# Altium schematic symbol library DC-DC Converters.SchLib: 69 symbols
Pins are listed as number, name and electrical type; pins without a type are passive.

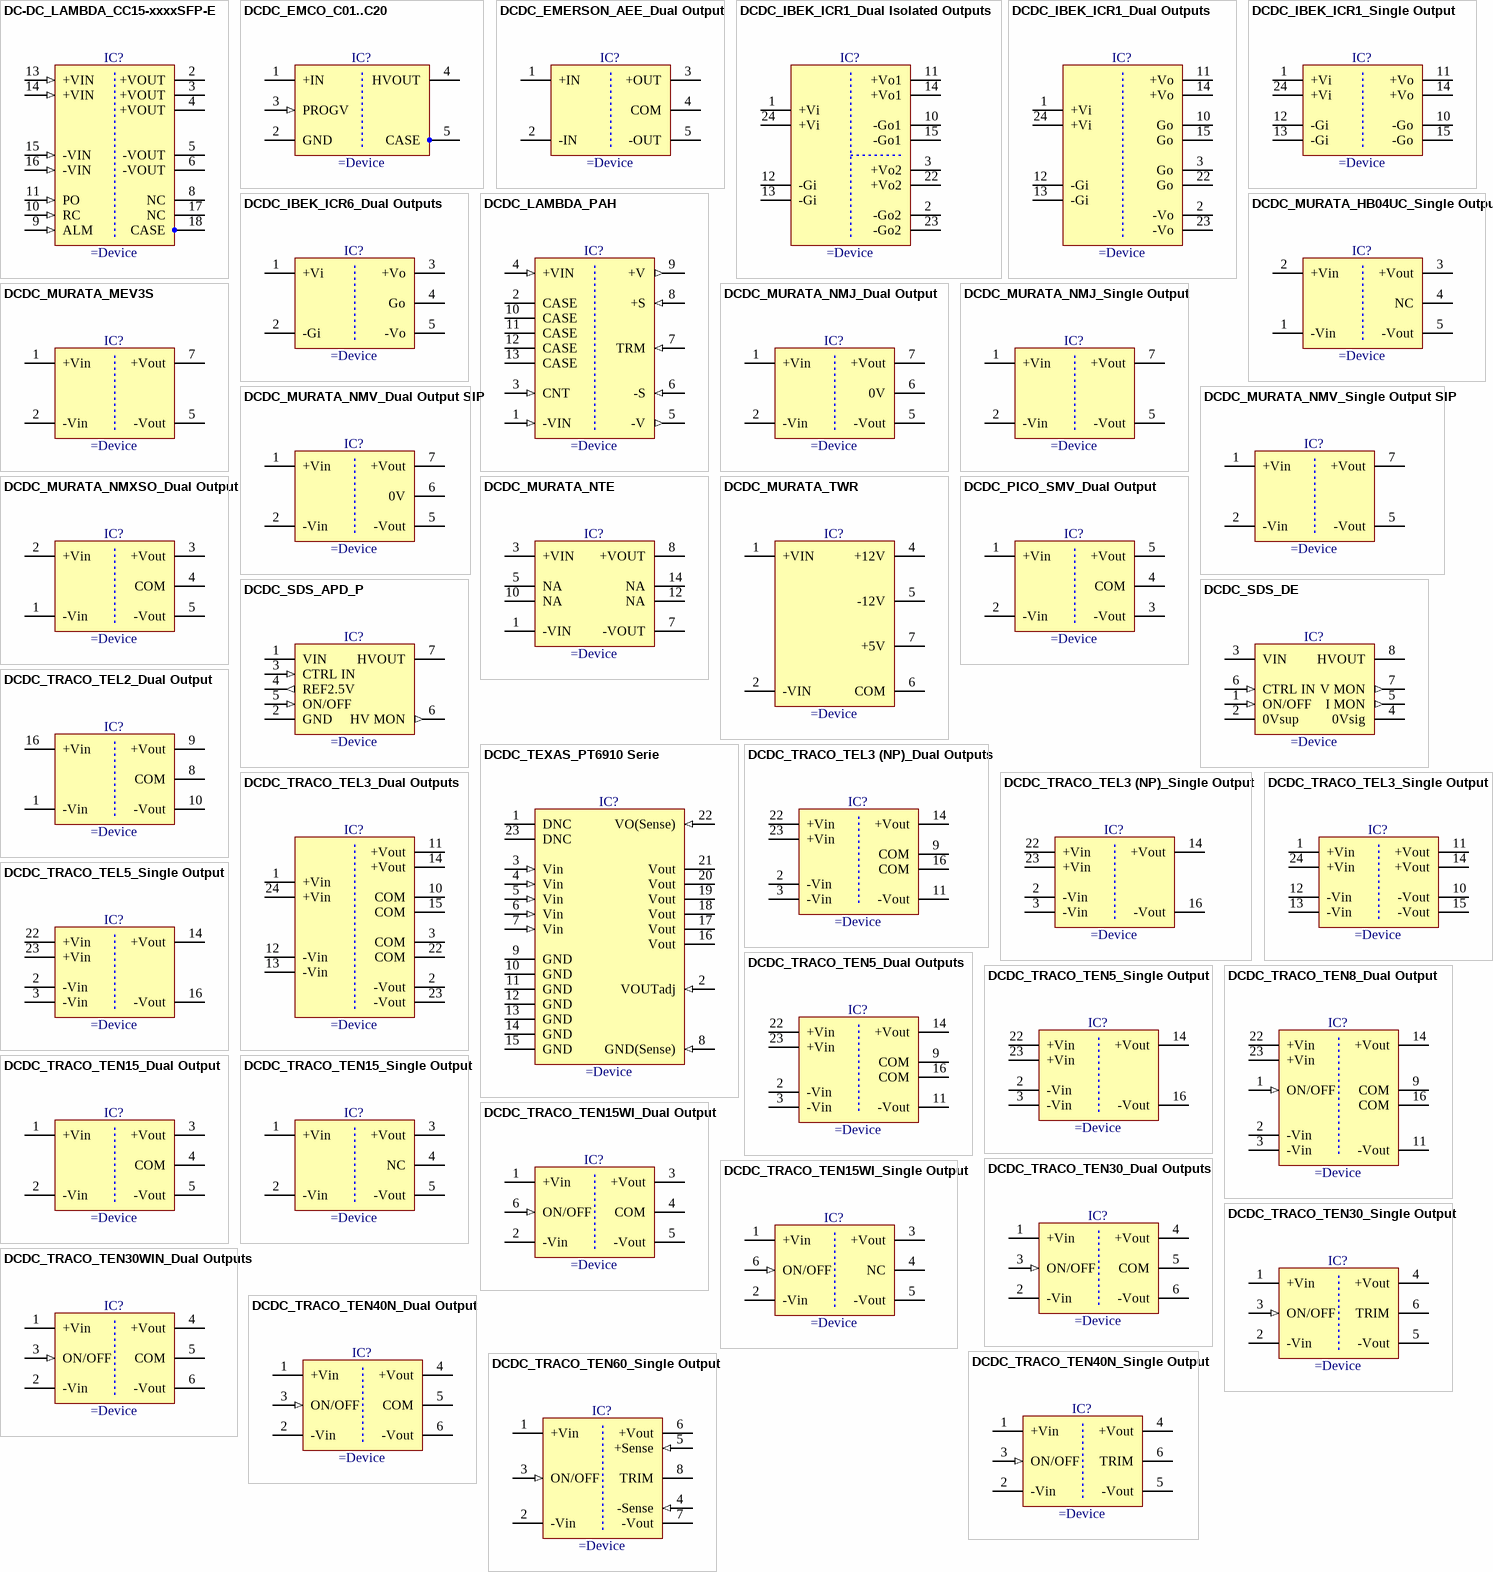
[diagram p0: symbols DC-DC_LAMBDA_CC15-xxxxSFP-E to DCDC_TRACO_TEN60_Single Output]

## DC-DC_LAMBDA_CC15-xxxxSFP-E
designator IC?
LAMBDA , CCP-E Series, 24V Input, 15W DCDC Converter
pins: 2 +VOUT (power) "Baseplate Terminal", 3 +VOUT (power) "On / Off Control terminal", 4 +VOUT (power) "Positive Input Terminal", 5 -VOUT (power) "Negative Output Terminal", 6 -VOUT (power) "Negative Remote sense", 8 NC "Positive Remote sense", 9 ALM (in) "Positive Output Terminal", 10 RC (in) "Baseplate Terminal", 11 PO (in) "Baseplate Terminal", 13 +VIN (in) "Baseplate Terminal", 14 +VIN (in) "Positive Output Terminal", 15 -VIN (in) "Positive Output Terminal", 16 -VIN (in) "Positive Output Terminal", 17 NC "Positive Output Terminal", 18 CASE (power) "Positive Output Terminal"

## DCDC_EMCO_C01..C20
designator IC?
TRACO, THN15 Series, Single Outputs DCDC Converter
pins: 1 +IN (power), 2 GND (power), 3 PROGV (in), 4 HVOUT (power), 5 CASE (power)

## DCDC_EMERSON_AEE_Dual Output
designator IC?
EMERSON AEE 15W Serie, Dual Output DCDC Converter
pins: 1 +IN (power), 2 -IN (power), 3 +OUT (power), 4 COM (power), 5 -OUT (power)

## DCDC_IBEK_ICR1_Dual Isolated Outputs
designator IC?
IBEK, ICR1 Serie, Dual Isolated Outputs DCDC Converter
pins: 1 +Vi (power), 2 -Go2 (power), 3 +Vo2 (power), 10 -Go1 (power), 11 +Vo1 (power), 12 -Gi (power), 13 -Gi (power), 14 +Vo1 (power), 15 -Go1 (power), 22 +Vo2 (power), 23 -Go2 (power), 24 +Vi (power)

## DCDC_IBEK_ICR1_Dual Outputs
designator IC?
IBEK, ICR1 Serie, Dual Outputs DCDC Converter
pins: 1 +Vi (power), 2 -Vo (power), 3 Go (power), 10 Go (power), 11 +Vo (power), 12 -Gi (power), 13 -Gi (power), 14 +Vo (power), 15 Go (power), 22 Go (power), 23 -Vo (power), 24 +Vi (power)

## DCDC_IBEK_ICR1_Single Output
designator IC?
IBEK, ICR1 Serie, Single Output DCDC Converter
pins: 1 +Vi (power), 10 -Go (power), 11 +Vo (power), 12 -Gi (power), 13 -Gi (power), 14 +Vo (power), 15 -Go (power), 24 +Vi (power)

## DCDC_IBEK_ICR6_Dual Outputs
designator IC?
IBEK, ICR6 Serie, Dual Outputs DCDC Converter
pins: 1 +Vi (power), 2 -Gi (power), 3 +Vo (power), 4 Go (power), 5 -Vo (power)

## DCDC_LAMBDA_PAH
designator IC?
LAMBDA , PAH Serie, 50W To 200W, 48V Input Half Brick DCDC Converter
pins: 1 -VIN (in) "Negative Input Terminal", 2 CASE "Baseplate Terminal", 3 CNT (in) "On / Off Control terminal", 4 +VIN (in) "Positive Input Terminal", 5 -V (out) "Negative Output Terminal", 6 -S (in) "Negative Remote sense", 7 TRM (in) "Output adjustment Trim pin", 8 +S (in) "Positive Remote sense", 9 +V (out) "Positive Output Terminal", 10 CASE "Baseplate Terminal", 11 CASE "Baseplate Terminal", 12 CASE "Baseplate Terminal", 13 CASE "Baseplate Terminal"

## DCDC_MURATA_HB04UC_Single Output
designator IC?
4W Unregulated High Isolation DC-DC Converter
pins: 1 -Vin (power), 2 +Vin (power), 3 +Vout (power), 4 NC (power), 5 -Vout (power)

## DCDC_MURATA_MEV3S
designator IC?
MURATA, MEV3S Serie DCDC Converter
pins: 1 +Vin (power), 2 -Vin (power), 5 -Vout (power), 7 +Vout (power)

## DCDC_MURATA_NMJ_Dual Output
designator IC?
MURATA, NMJ Serie, Dual Output DCDC Converter
pins: 1 +Vin (power), 2 -Vin (power), 5 -Vout (power), 6 0V (power), 7 +Vout (power)

## DCDC_MURATA_NMJ_Single Output
designator IC?
MURATA, NMJ Serie, Single Output DCDC Converter
pins: 1 +Vin (power), 2 -Vin (power), 5 -Vout (power), 7 +Vout (power)

## DCDC_MURATA_NMV_Dual Output SIP
designator IC?
MURATA, NMV Serie, Dual Output DCDC Converter
pins: 1 +Vin (power), 2 -Vin (power), 5 -Vout (power), 6 0V (power), 7 +Vout (power)

## DCDC_MURATA_NMV_Single Output SIP
designator IC?
MURATA, NMV Serie, Single Output DCDC Converter
pins: 1 +Vin (power), 2 -Vin (power), 5 -Vout (power), 7 +Vout (power)

## DCDC_MURATA_NMXSO_Dual Output
designator IC?
Isolated 5W Regulated Single & Dual Output DC-DC Converter
pins: 1 -Vin (power), 2 +Vin (power), 3 +Vout (power), 4 COM (power), 5 -Vout (power)

## DCDC_MURATA_NTE
designator IC?
NTE Series, DC-DC Converter
pins: 1 -VIN (power), 3 +VIN (power), 5 NA, 7 -VOUT (power), 8 +VOUT (power), 10 NA, 12 NA, 14 NA

## DCDC_MURATA_TWR
designator IC?
High-Reliability, 2" x 1", 8-11 W, Triple Output DC/DC Converters
pins: 1 +VIN (power), 2 -VIN (power), 4 +12V (power), 5 -12V (power), 6 COM (power), 7 +5V (power)

## DCDC_PICO_SMV_Dual Output
designator IC?
PICO, SMV Serie, Dual Output DCDC Converter
pins: 1 +Vin (power), 2 -Vin (power), 3 -Vout (power), 4 COM (power), 5 +Vout (power)

## DCDC_SDS_APD_P
designator IC?
SDS, APD Serie, High Voltage DC-DC Converter
pins: 1 VIN (power), 2 GND (power), 3 CTRL IN (in), 4 REF2.5V (out), 5 ON/OFF (in), 6 HV MON (out), 7 HVOUT (power)

## DCDC_SDS_DE
designator IC?
SDS, DE Serie, High Voltage DC-DC Converter
pins: 1 ON/OFF (in), 2 0Vsup (power), 3 VIN (power), 4 0Vsig (power), 5 I MON (out), 6 CTRL IN (in), 7 V MON (out), 8 HVOUT (power)

## DCDC_TEXAS_PT6910 Serie
designator IC?
12 Watt 5V/3.3V Input Plus to Minus Voltage Converter
pins: 1 DNC, 2 VOUTadj (in), 3 Vin (in), 4 Vin (in), 5 Vin (in), 6 Vin (in), 7 Vin (in), 8 GND(Sense) (in), 9 GND (power), 10 GND (power), 11 GND (power), 12 GND (power), 13 GND (power), 14 GND (power), 15 GND (power), 16 Vout (power), 17 Vout (power), 18 Vout (power), 19 Vout (power), 20 Vout (power), 21 Vout (power), 22 VO(Sense) (in), 23 DNC

## DCDC_TRACO_TEL2_Dual Output
designator IC?
TRACO, TEL2 Serie, Dual Output DCDC Converter
pins: 1 -Vin (power), 8 COM (power), 9 +Vout (power), 10 -Vout (power), 16 +Vin (power)

## DCDC_TRACO_TEL3 (NP)_Dual Outputs
designator IC?
TRACO, TEL3 Serie, NP Pinout, Dual Outputs DCDC Converter
pins: 2 -Vin (power), 3 -Vin (power), 9 COM (power), 11 -Vout (power), 14 +Vout (power), 16 COM (power), 22 +Vin (power), 23 +Vin (power)

## DCDC_TRACO_TEL3 (NP)_Single Output
designator IC?
TRACO, TEL3 Serie, NP Pinout, Single Output DCDC Converter
pins: 2 -Vin (power), 3 -Vin (power), 14 +Vout (power), 16 -Vout (power), 22 +Vin (power), 23 +Vin (power)

## DCDC_TRACO_TEL3_Dual Outputs
designator IC?
TRACO, TEL3 Serie, Dual Outputs DCDC Converter
pins: 1 +Vin (power), 2 -Vout (power), 3 COM (power), 10 COM (power), 11 +Vout (power), 12 -Vin (power), 13 -Vin (power), 14 +Vout (power), 15 COM (power), 22 COM (power), 23 -Vout (power), 24 +Vin (power)

## DCDC_TRACO_TEL3_Single Output
designator IC?
TRACO, TEL3 Serie, Single Output DCDC Converter
pins: 1 +Vin (power), 10 -Vout (power), 11 +Vout (power), 12 -Vin (power), 13 -Vin (power), 14 +Vout (power), 15 -Vout (power), 24 +Vin (power)

## DCDC_TRACO_TEL5_Single Output
designator IC?
TRACO, TEL5 Serie, Single Output DCDC Converter
pins: 2 -Vin (power), 3 -Vin (power), 14 +Vout (power), 16 -Vout (power), 22 +Vin (power), 23 +Vin (power)

## DCDC_TRACO_TEN5_Dual Outputs
designator IC?
TRACO, TEN5 Serie, Dual Outputs DCDC Converter
pins: 2 -Vin (power), 3 -Vin (power), 9 COM (power), 11 -Vout (power), 14 +Vout (power), 16 COM (power), 22 +Vin (power), 23 +Vin (power)

## DCDC_TRACO_TEN5_Single Output
designator IC?
TRACO, TEN5 Serie, Single Output DCDC Converter
pins: 2 -Vin (power), 3 -Vin (power), 14 +Vout (power), 16 -Vout (power), 22 +Vin (power), 23 +Vin (power)

## DCDC_TRACO_TEN8_Dual Output
designator IC?
TRACO, TEN Serie, Dual Output DCDC Converter
pins: 1 ON/OFF (in), 2 -Vin (power), 3 -Vin (power), 9 COM (power), 11 -Vout (power), 14 +Vout (power), 16 COM (power), 22 +Vin (power), 23 +Vin (power)

## DCDC_TRACO_TEN15_Dual Output
designator IC?
TRACO, TEN15 Serie, Dual Output DCDC Converter
pins: 1 +Vin (power), 2 -Vin (power), 3 +Vout (power), 4 COM (power), 5 -Vout (power)

## DCDC_TRACO_TEN15_Single Output
designator IC?
TRACO, TEN15 Serie, Single Output DCDC Converter
pins: 1 +Vin (power), 2 -Vin (power), 3 +Vout (power), 4 NC (power), 5 -Vout (power)

## DCDC_TRACO_TEN15WI_Dual Output
designator IC?
TRACO, TEN15WI Serie, Dual Output DCDC Converter
pins: 1 +Vin (power), 2 -Vin (power), 3 +Vout (power), 4 COM (power), 5 -Vout (power), 6 ON/OFF (in)

## DCDC_TRACO_TEN15WI_Single Output
designator IC?
TRACO, TEN15WI Serie, Single Output DCDC Converter
pins: 1 +Vin (power), 2 -Vin (power), 3 +Vout (power), 4 NC (power), 5 -Vout (power), 6 ON/OFF (in)

## DCDC_TRACO_TEN30_Dual Outputs
designator IC?
TRACO, TEN30 Series, Dual Outputs DCDC Converter
pins: 1 +Vin (power), 2 -Vin (power), 3 ON/OFF (in), 4 +Vout (power), 5 COM (power), 6 -Vout (power)

## DCDC_TRACO_TEN30_Single Output
designator IC?
TRACO, TEN30 Series, Single Output DCDC Converter
pins: 1 +Vin (power), 2 -Vin (power), 3 ON/OFF (in), 4 +Vout (power), 5 -Vout (power), 6 TRIM (power)

## DCDC_TRACO_TEN30WIN_Dual Outputs
designator IC?
TRACO, TEN30WIN Series, Dual Outputs DCDC Converter
pins: 1 +Vin (power), 2 -Vin (power), 3 ON/OFF (in), 4 +Vout (power), 5 COM (power), 6 -Vout (power)

## DCDC_TRACO_TEN40N_Dual Output
designator IC?
TRACO, TEN40N Series, Dual Output DCDC Converter
pins: 1 +Vin (power), 2 -Vin (power), 3 ON/OFF (in), 4 +Vout (power), 5  COM (power), 6 -Vout (power)

## DCDC_TRACO_TEN40N_Single Output
designator IC?
TRACO, TEN40N Series, Single Output DCDC Converter
pins: 1 +Vin (power), 2 -Vin (power), 3 ON/OFF (in), 4 +Vout (power), 5 -Vout (power), 6 TRIM (power)

## DCDC_TRACO_TEN60_Single Output
designator IC?
TRACO, TEN60 Series, Single Output DCDC Converter
pins: 1 +Vin (power), 2 -Vin (power), 3 ON/OFF (in), 4 -Sense (in), 5 +Sense (in), 6 +Vout (power), 7 -Vout (power), 8 TRIM (power)

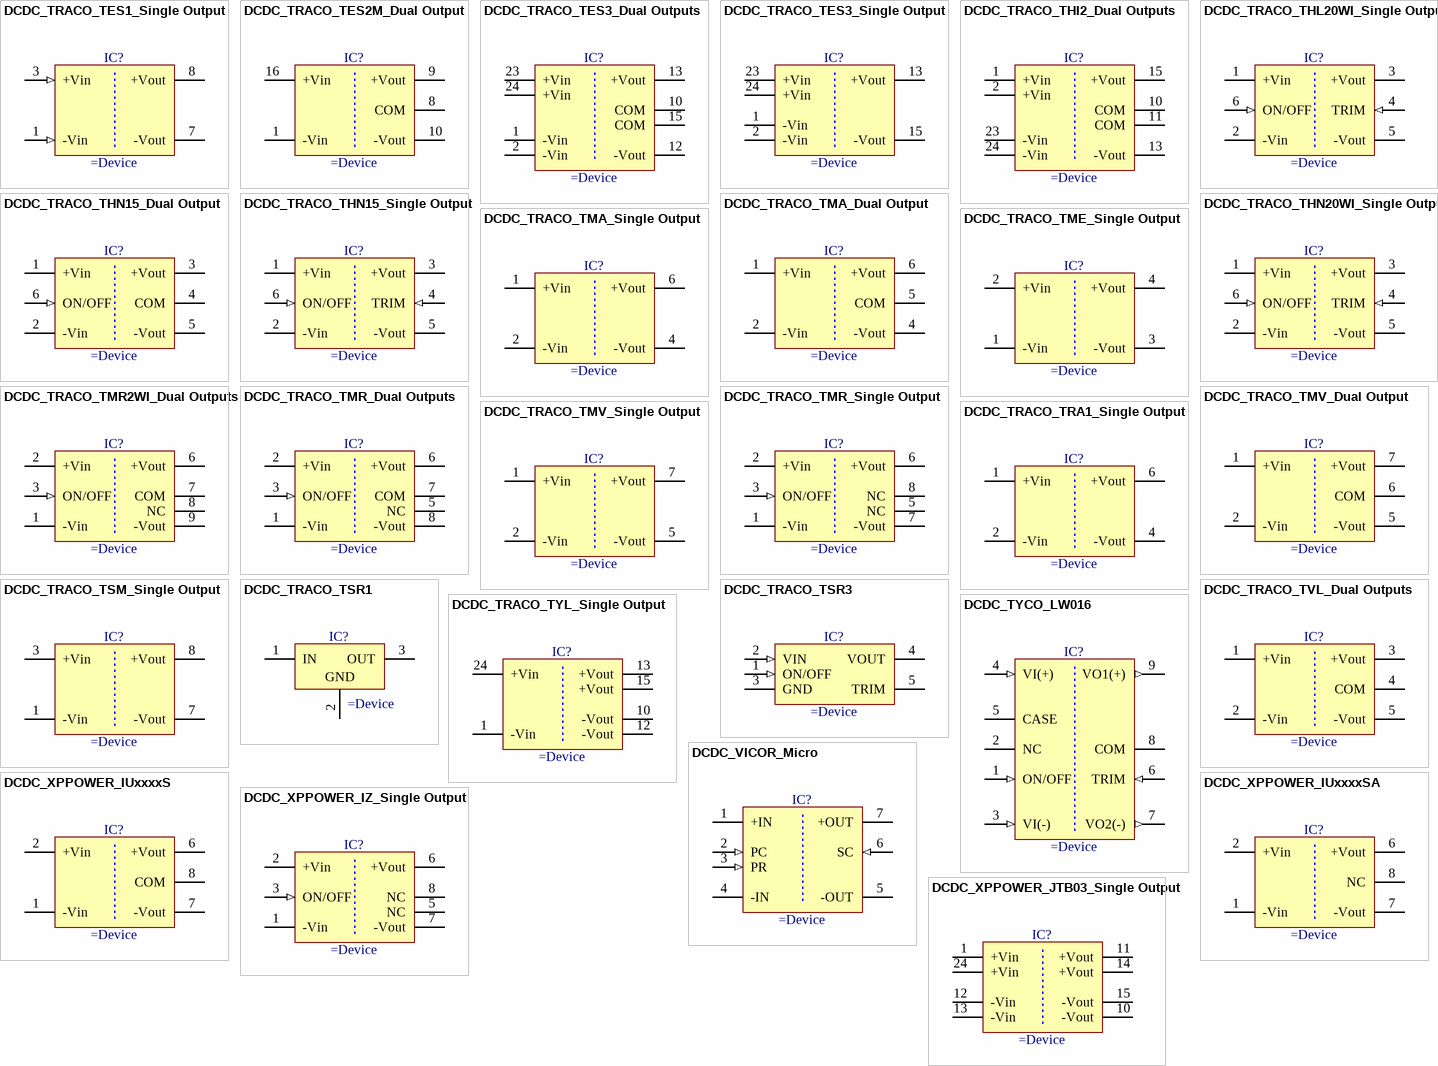
[diagram p1: symbols DCDC_TRACO_TES1_Single Output to DCDC_XPPOWER_JTB03_Single Output]

## DCDC_TRACO_TES1_Single Output
designator IC?
TRACO, TES1 Serie, Single Output DCDC Converter
pins: 1 -Vin (in), 3 +Vin (in), 7 -Vout (power), 8 +Vout (power)

## DCDC_TRACO_TES2M_Dual Output
designator IC?
TRACO, TEN15 Serie, Dual Output DCDC Converter
pins: 1 -Vin (power), 8 COM (power), 9 +Vout (power), 10 -Vout (power), 16 +Vin (power)

## DCDC_TRACO_TES3_Dual Outputs
designator IC?
TRACO, TES3 Serie, Dual Outputs DCDC Converter
pins: 1 -Vin (power), 2 -Vin (power), 10 COM (power), 12 -Vout (power), 13 +Vout (power), 15 COM (power), 23 +Vin (power), 24 +Vin (power)

## DCDC_TRACO_TES3_Single Output
designator IC?
TRACO, TES3 Serie, Single Output DCDC Converter
pins: 1 -Vin (power), 2 -Vin (power), 13 +Vout (power), 15 -Vout (power), 23 +Vin (power), 24 +Vin (power)

## DCDC_TRACO_THI2_Dual Outputs
designator IC?
TRACO, THI Serie, Dual Outputs DCDC Converter
pins: 1 +Vin (power), 2 +Vin (power), 10 COM (power), 11 COM (power), 13 -Vout (power), 15 +Vout (power), 23 -Vin (power), 24 -Vin (power)

## DCDC_TRACO_THL20WI_Single Output
designator IC?
TRACO, THL 20WI Series, Single Outputs DCDC Converter
pins: 1 +Vin (power), 2 -Vin (power), 3 +Vout (power), 4 TRIM (in), 5 -Vout (power), 6 ON/OFF (in)

## DCDC_TRACO_THN15_Dual Output
designator IC?
TRACO, THN15 Series, Dual Outputs DCDC Converter
pins: 1 +Vin (power), 2 -Vin (power), 3 +Vout (power), 4 COM (power), 5 -Vout (power), 6 ON/OFF (in)

## DCDC_TRACO_THN15_Single Output
designator IC?
TRACO, THN15 Series, Single Outputs DCDC Converter
pins: 1 +Vin (power), 2 -Vin (power), 3 +Vout (power), 4 TRIM (in), 5 -Vout (power), 6 ON/OFF (in)

## DCDC_TRACO_THN20WI_Single Output
designator IC?
TRACO, THN20WI Series, Single Outputs DCDC Converter
pins: 1 +Vin (power), 2 -Vin (power), 3 +Vout (power), 4 TRIM (in), 5 -Vout (power), 6 ON/OFF (in)

## DCDC_TRACO_TMA_Dual Output
designator IC?
TRACO, TMA Serie, Dual Output DCDC Converter
pins: 1 +Vin (power), 2 -Vin (power), 4 -Vout (power), 5 COM (power), 6 +Vout (power)

## DCDC_TRACO_TMA_Single Output
designator IC?
TRACO, TMA Serie, Single Output DCDC Converter
pins: 1 +Vin (power), 2 -Vin (power), 4 -Vout (power), 6 +Vout (power)

## DCDC_TRACO_TME_Single Output
designator IC?
TRACO, TME Serie, Single Output DCDC Converter
pins: 1 -Vin (power), 2 +Vin (power), 3 -Vout (power), 4 +Vout (power)

## DCDC_TRACO_TMR2WI_Dual Outputs
designator IC?
TRACO, TMR 2WI Series, Dual Output DCDC Converter
pins: 1 -Vin (power), 2 +Vin (power), 3 ON/OFF (in), 6 +Vout (power), 7 COM (power), 8 NC, 9 -Vout (power)

## DCDC_TRACO_TMR_Dual Outputs
designator IC?
TRACO, TMR 2 Series, Dual Output DCDC Converter
pins: 1 -Vin (power), 2 +Vin (power), 3 ON/OFF (in), 5 NC (power), 6 +Vout (power), 7 COM (power), 8 -Vout (power)

## DCDC_TRACO_TMR_Single Output
designator IC?
TRACO, TMR Series, Single Output DCDC Converter
pins: 1 -Vin (power), 2 +Vin (power), 3 ON/OFF (in), 5 NC (power), 6 +Vout (power), 7 -Vout (power), 8 NC (power)

## DCDC_TRACO_TMV_Dual Output
designator IC?
TRACO, TMV Serie, Dual Output DCDC Converter
pins: 1 +Vin (power), 2 -Vin (power), 5 -Vout (power), 6 COM (power), 7 +Vout (power)

## DCDC_TRACO_TMV_Single Output
designator IC?
TRACO, TMV Serie, Single Output DCDC Converter
pins: 1 +Vin (power), 2 -Vin (power), 5 -Vout (power), 7 +Vout (power)

## DCDC_TRACO_TRA1_Single Output
designator IC?
TRACO, TRA1 Serie, Single Output DCDC Converter
pins: 1 +Vin (power), 2 -Vin (power), 4 -Vout (power), 6 +Vout (power)

## DCDC_TRACO_TSM_Single Output
designator IC?
TRACO, TSM Serie, Single Output DCDC Converter
pins: 1 -Vin (power), 3 +Vin (power), 7 -Vout (power), 8 +Vout (power)

## DCDC_TRACO_TSR1
designator IC?
TRACO, TSR 1 Serie, Single Output DCDC Converter
pins: 1 IN (power), 2 GND (power), 3 OUT (power)

## DCDC_TRACO_TSR3
designator IC?
TRACO, TSR 3 Serie, DCDC Converter
pins: 1 ON/OFF (in), 2 VIN (in), 3 GND (power), 4 VOUT (power), 5 TRIM

## DCDC_TRACO_TVL_Dual Outputs
designator IC?
TRACO, TVL Series, Dual Outputs DCDC Converter
pins: 1 +Vin (power), 2 -Vin (power), 3 +Vout (power), 4 COM (power), 5 -Vout (power)

## DCDC_TRACO_TYL_Single Output
designator IC?
TRACO, TYL Serie, Single Output DCDC Converter
pins: 1 -Vin (power), 10 -Vout (power), 12 -Vout (power), 13 +Vout (power), 15 +Vout (power), 24 +Vin (power)

## DCDC_TYCO_LW016
designator IC?
LW016 Dual-Output-Series Power Modules, 36 VDC to 75 VDC Inputs, 16 W
pins: 1 ON/OFF (in) "Remote ON/OFF", 2 NC "No Connection", 3 VI(-) (in), 4 VI(+) (in), 5 CASE (power) "Case Ground Pin", 6 TRIM (in), 7 VO2(-) (out), 8 COM (power) "Common", 9 VO1(+) (out)

## DCDC_VICOR_Micro
designator IC?
VICOR, Micro Family DCDC Converter
pins: 1 +IN (power), 2 PC (in), 3 PR (in), 4 -IN (power), 5 -OUT (power), 6 SC (in), 7 +OUT (power)

## DCDC_XPPOWER_IUxxxxS
designator IC?
XP POWER , IZ Series SIP Version, Dual Output, Without Remote On/Off Option, DCDC Converter
pins: 1 -Vin (power), 2 +Vin (power), 6 +Vout (power), 7 -Vout (power), 8 COM (power)

## DCDC_XPPOWER_IUxxxxSA
designator IC?
XP POWER , IZ Series SIP Version, Single Output, Without Remote On/Off Option, DCDC Converter
pins: 1 -Vin (power), 2 +Vin (power), 6 +Vout (power), 7 -Vout (power), 8 NC (power)

## DCDC_XPPOWER_IZ_Single Output
designator IC?
XP POWER , IZ Series, Single Output DCDC Converter
pins: 1 -Vin (power), 2 +Vin (power), 3 ON/OFF (in), 5 NC (power), 6 +Vout (power), 7 -Vout (power), 8 NC (power)

## DCDC_XPPOWER_JTB03_Single Output
designator IC?
XP POWER, JTB03 Serie, Single Output DCDC Converter
pins: 1 +Vin (power), 10 -Vout (power), 11 +Vout (power), 12 -Vin (power), 13 -Vin (power), 14 +Vout (power), 15 -Vout (power), 24 +Vin (power)